# Altium footprint library Transistor_THT.PcbLib: 8 footprints
Each footprint in its own frame and in the unit in brackets; x right, y up, seen from the top. Pads: shape width x height; smd on the part's side, far side on the other; paste and mask are expansions set on the pad; w line width, h text height; cw(c..) or ccw(c..) is an arc to the next point about the centre after c.
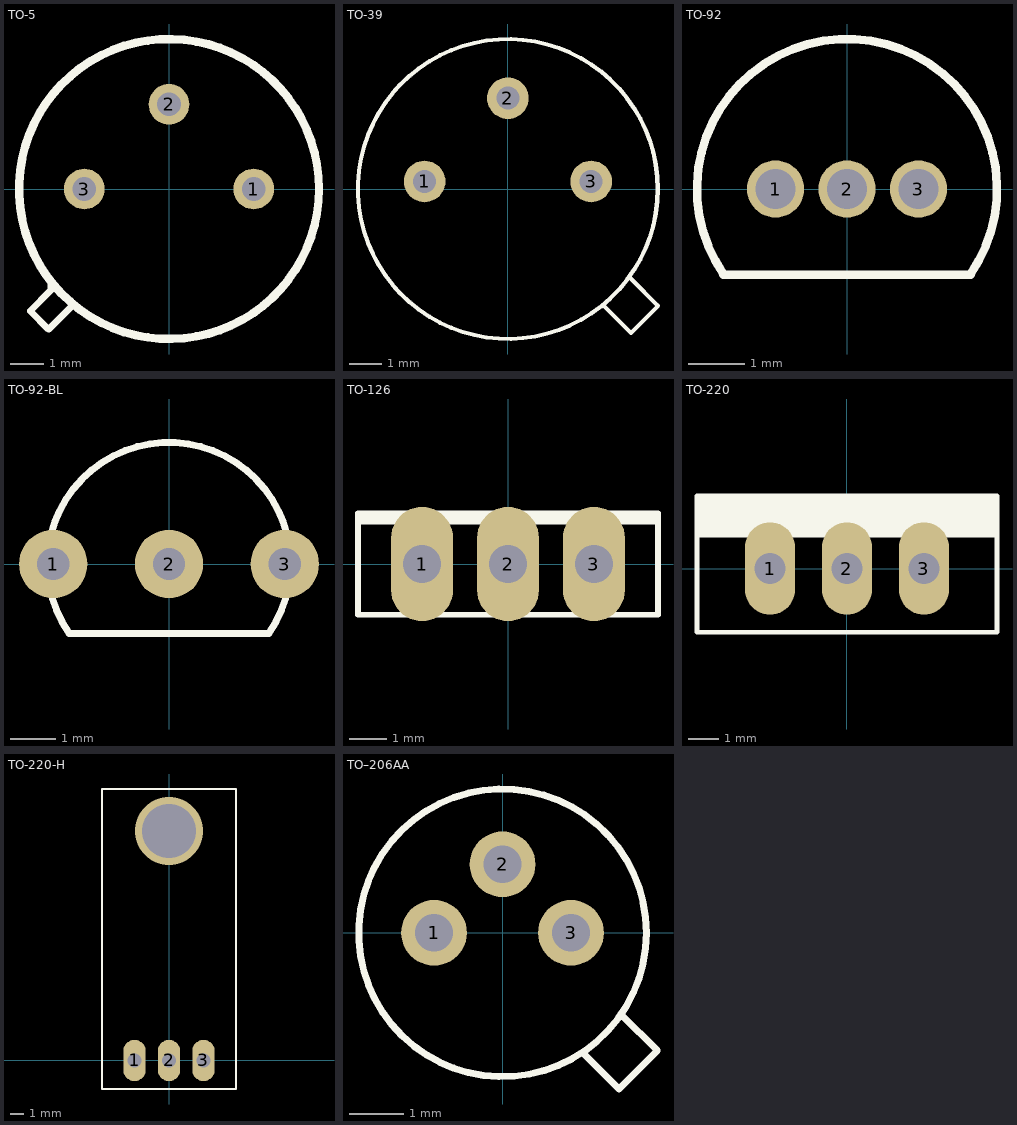
[diagram p0: the footprints below, top view; thin cyan lines are the x and y axes]

## TO-5 [mil]
pads (3):
  round 48 hole 28: 1(100,0) 2(0,100) 3(-100,0)
Top Overlay:
  circle w10: c0,0 r177.17
  lines w7.87: -139.76,-112.2 -139.76,-120.08 -163.88,-144.19 -142.22,-165.85 -114.17,-137.8 -110.24,-137.8
3D body: height 185.04, standoff -500, extent -255.45,-272.87 242.64,242.63

## TO-39 [mm]
pads (3):
  round 1.27 hole 0.7: 1(-2.54,0.23) 2(0,2.77) 3(2.54,0.23)
Top Overlay:
  circle w0.127: c0,0 r4.572
  lines w0.127: 2.902,-3.537 3.753,-4.388 4.579,-3.563 3.753,-2.737
3D body: height 11.32, standoff -7.1, extent -4.7,-4.471 4.699,4.929

## TO-92 [mil] "TO-92 BEND LEAD"
pads (3):
  round 40 hole 28: 1(-50,0) 2(0,0) 3(50,0)
Top Overlay:
  lines w6: -86.44,-60 86.44,-60 ; -86.44,-59.61 cw(c0,0) 86.44,-59.61
3D body: height 393.7, standoff -118.11, extent -102.87,-62.61 102.88,102.88

## TO-92-BL [mm] "TO-92 BEND LEAD"
pads (3):
  round 1.5 hole 0.711: 1(-2.54,0) 2(0,0) 3(2.54,0)
Top Overlay:
  lines w0.152: -2.196,-1.524 2.196,-1.524 ; -2.196,-1.514 cw(c0,0) 2.196,-1.514
3D body: height 10.41, standoff -7.62, extent -2.888,-1.53 2.852,2.66

## TO-126 [mil]
pads (3):
  oval 65x120 hole 40: 1(-90.16,0) 2(0,0) 3(90.16,0)
Top Overlay:
  rectangle: -157.48,41.34 157.48,53.15
  lines w6: -157.48,-53.15 -157.48,53.15 157.48,53.15 157.48,-53.15 -157.48,-53.15
3D body: height 519.29, standoff -139.37, extent -149.6,-39.37 149.61,61.03

## TO-220 [mil]
pads (3):
  oval 65x120 hole 40: 1(-100,0) 2(0,0) 3(100,0)
Top Overlay:
  region: 194.88,94.49 -194.88,94.49 -194.88,43.31 194.88,43.31
  lines w6: -194.88,43.31 194.88,43.31 ; -194.88,-82.68 194.88,-82.68 194.88,94.49 -194.88,94.49 -194.88,-82.68
3D body: height 897.64, standoff -235.43, extent -194.88,-82.68 194.88,94.49

## TO-220-H [mil]
pads (3):
  oval 65x120 hole 40: 1(-100,0) 2(0,0) 3(100,0)
via 0,665.35 diameter 196.85 hole 157.48
Top Overlay:
  circle w10: c0,665.35 r78.74
  lines w6: -194.88,-82.68 194.88,-82.68 194.88,787.4 -194.88,787.4 -194.88,-82.68
3D body: height 179.13, standoff -140.94, extent -194.88,-10.34 194.88,785.43

## TO–206AA [mil]
pads (3):
  round 48 hole 27.56: 1(-50,0) 2(0,50) 3(50,0)
Top Overlay:
  circle w5: c0,0 r105
  lines w5: 59.5,-88.5 85,-114 113,-86 87,-60
3D body: height 177.17, standoff -212.6, extent -147.82,-174.35 174.34,147.82